# EAGLE library part PCA9502 (library noah)
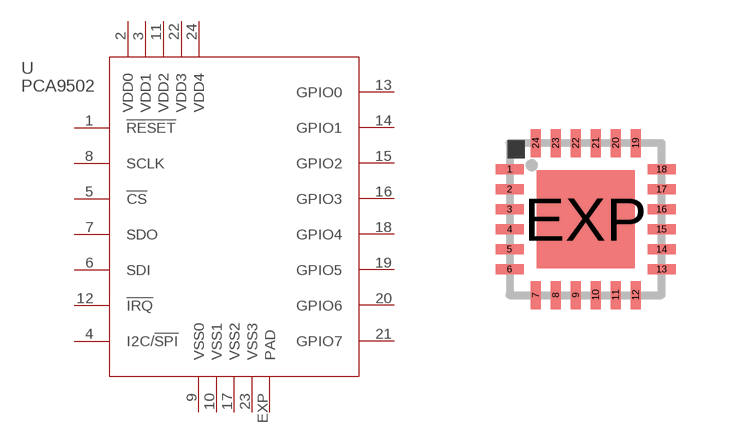
[diagram p36: symbol with the pads of QFN24-4X4; footprint QFN24-4X4]

Designator prefix U

## PCA9502  [QFN24-4X4]
1  !RESET!
2  VDD0
3  VDD1
4  I2C/!SPI!
5  !CS!
6  SDI
7  SDO
8  SCLK
9  VSS0
10  VSS1
11  VDD2
12  !IRQ!
13  GPIO0
14  GPIO1
15  GPIO2
16  GPIO3
17  VSS2
18  GPIO4
19  GPIO5
20  GPIO6
21  GPIO7
22  VDD3
23  VSS3
24  VDD4
EXP  PAD

## Footprint QFN24-4X4 (pad centres in mm)
UF Package 24-Lead (4mm × 4mm) Plastic QFN Source: http://cds.linear.com/docs/Datasheet/5598f.pdf
smd 0.7 x 0.25: 1 -1.9,1.25; 2 -1.9,0.75; 3 -1.9,0.25; 4 -1.9,-0.25; 5 -1.9,-0.75; 6 -1.9,-1.25; 13 1.9,-1.25; 14 1.9,-0.75; 15 1.9,-0.25; 16 1.9,0.25; 17 1.9,0.75; 18 1.9,1.25
smd 0.25 x 0.7: 7 -1.25,-1.9; 8 -0.75,-1.9; 9 -0.25,-1.9; 10 0.25,-1.9; 11 0.75,-1.9; 12 1.25,-1.9; 19 1.25,1.9; 20 0.75,1.9; 21 0.25,1.9; 22 -0.25,1.9; 23 -0.75,1.9; 24 -1.25,1.9
smd 2.45 x 2.45: EXP 0,0